# EAGLE library part TTP223-BA6 (library TTP223-BA6)
Détecteur de Touches Tactiles IC Doc constructeur <http://geii/magasin/pdf/TTP223-BA6.pdf> GEII/IUT ANGERS Check availability <https://pricing.snapeda.com/parts/TTP223-BA6/tontek/view-part?ref=eda>
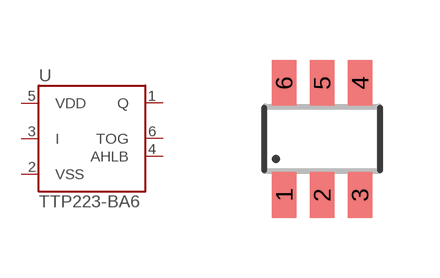
[diagram p0: symbol with the pads of SOT23-6; footprint SOT23-6]

Designator prefix U

## TTP223-BA6 (Availability: Not in stock; Check_prices: https://www.snapeda.com/parts/TTP223-BA6/TONTEK/view-part/?ref=eda; MF: tontek; MP: TTP223-BA6; Package: None; Price: None; SnapEDA_Link: https://www.snapeda.com/parts/TTP223-BA6/TONTEK/view-part/?ref=snap)  [SOT23-6]
1  Q  out
2  VSS  pwr
3  I
4  AHLB  in
5  VDD  pwr
6  TOG  in

## Footprint SOT23-6 (pad centres in mm)
Empreinte CMS SOT23 6 broches <http://geii/magasin/jpg/SOT23-6.jpg> GEII/IUT ANGERS
smd 0.61 x 1.143: 1 -0.95,-1.404; 2 0,-1.404; 3 0.95,-1.404; 4 0.95,1.404; 5 0,1.404; 6 -0.95,1.404